# Altium footprint library CAP.PcbLib: 19 footprints (part 2 of 2)
Each footprint in its own frame and in the unit in brackets; x right, y up, seen from the top. Pads: shape width x height; smd on the part's side, far side on the other; paste and mask are expansions set on the pad; w line width, h text height; cw(c..) or ccw(c..) is an arc to the next point about the centre after c.
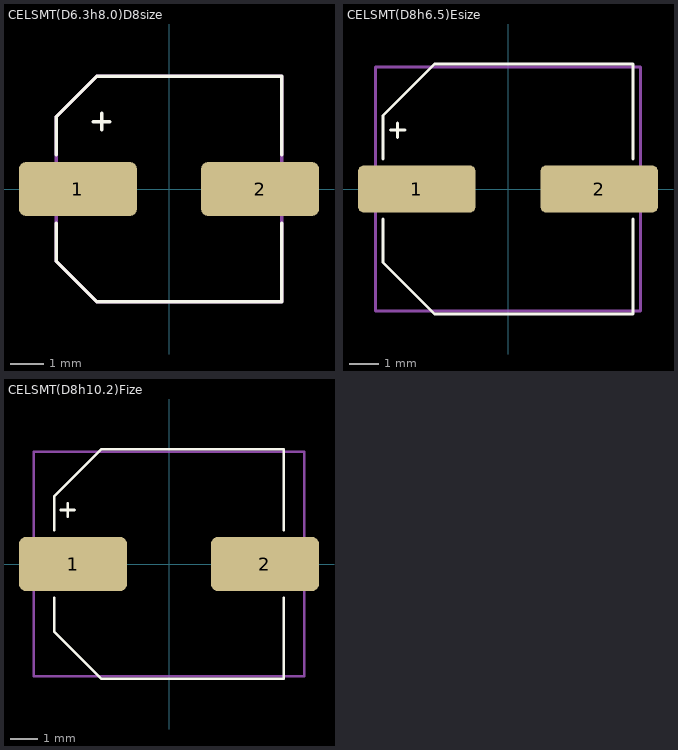
[diagram p1: the footprints below, top view; thin cyan lines are the x and y axes]

## CELSMT(D6.3h8.0)D8size [mm] "El Cap D6.3h8"
height 8
pads (2):
  rrect25% 3.5x1.6 smd mask+0.102: 1(-2.7,0) 2(2.7,0)
Top Overlay:
  lines w0.1: -3.35,-1.016 -3.35,-2.15 -2.15,-3.35 3.35,-3.35 3.35,-1.016 ; -3.35,1.016 -3.35,2.15 -2.15,3.35 3.35,3.35 3.35,1.016 ; -2.25,2 -1.75,2 ; -2,1.75 -2,2.25
Top Assembly:
  lines w0.1: -3.35,-2.15 -3.35,2.15 -2.15,3.35 3.35,3.35 3.35,-3.35 -2.15,-3.35 -3.35,-2.15
3D body "User Library-capacitor size D8.step": height 7.71, standoff -0.01, extent -3.5,-3.3 3.5,3.3

## CELSMT(D8h6.5)Esize [mm] "El Cap D8h6.5"
height 6.5
pads (2):
  rrect25% 4x1.6 smd mask+0.102: 1(-3.1,0) 2(3.1,0)
Top Overlay:
  lines w0.1: -4.25,-1.016 -4.25,-2.5 -2.5,-4.25 4.25,-4.25 4.25,-1.016 ; -4.25,1.016 -4.25,2.5 -2.5,4.25 4.25,4.25 4.25,1.016 ; -4,2 -3.5,2 ; -3.75,1.75 -3.75,2.25
Top 3D Body:
  lines w0.1: -4.5,-4.15 4.5,-4.15 4.5,4.15 -4.5,4.15 -4.5,-4.15
3D body "User Library-capacitor size E.step": height 6.2, standoff -0.01, extent -4.5,-4.15 4.5,4.15

## CELSMT(D8h10.2)Fize [mm] "El Cap D8h10.2"
height 10.2
pads (2):
  rrect25% 4x2 smd mask+0.102: 1(-3.55,0) 2(3.55,0)
Top Overlay:
  lines w0.1: -4.25,-1.25 -4.25,-2.5 -2.5,-4.25 4.25,-4.25 4.25,-1.25 ; -4.25,1.25 -4.25,2.5 -2.5,4.25 4.25,4.25 4.25,1.25 ; -4,2 -3.5,2 ; -3.75,1.75 -3.75,2.25
Top 3D Body:
  lines w0.1: -5,-4.15 -5,4.15 5,4.15 5,-4.15 -5,-4.15
3D body "User Library-capacitor size F.step": height 10.21, standoff -0.01, extent -4.95,-4.15 4.95,4.15